# Altium integrated library Infineon_Power_MOSFET.IntLib: 1448 symbols (part 29 of 47)
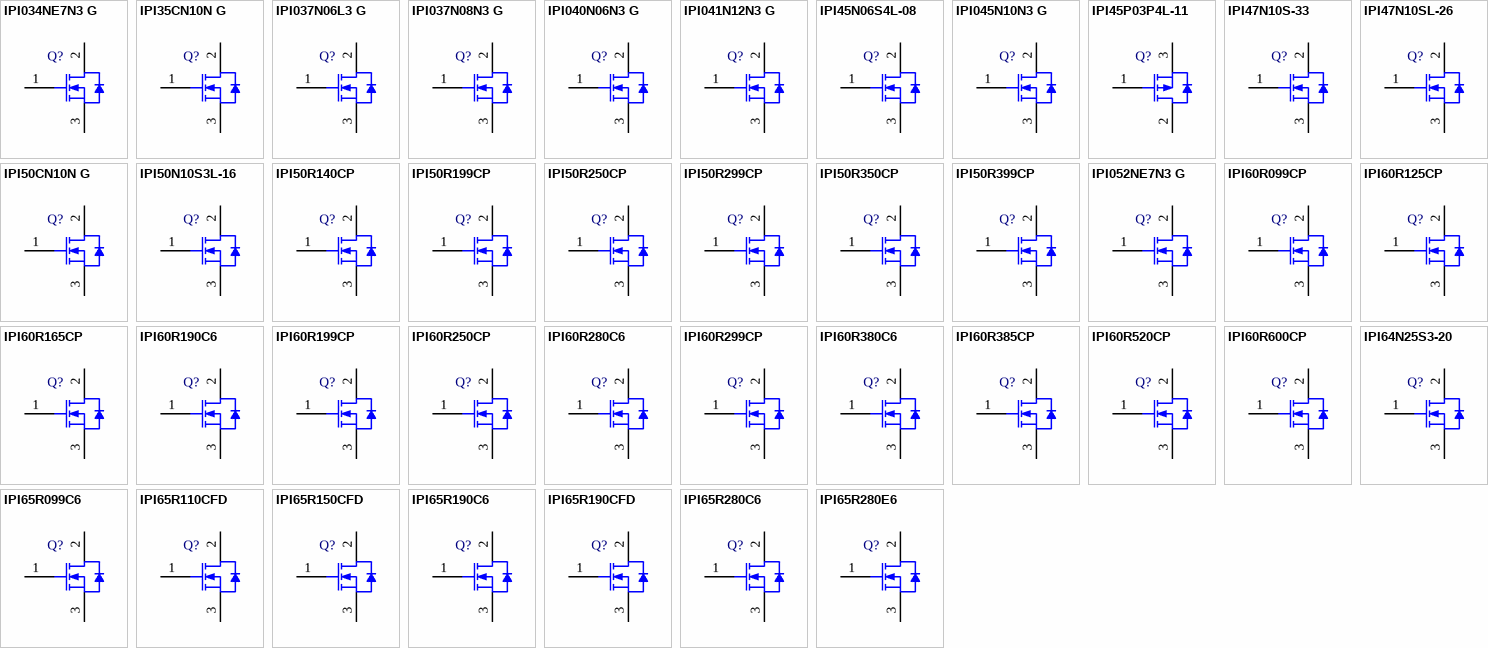
[diagram p65: symbols IPI034NE7N3 G to IPI65R280E6]

## IPI50N10S3L-16
designator Q?
OptiMOS-T Power-Transistor, 100 V VDS, 50 A ID, PG-TO262-3-1, Tube, Green; Manufacturer: Infineon; PartNumber: IPI50N10S3L-16; Green: TRUE; ID (max): 50 A; IDpuls (max): 200 A; Ptot (max): 100 W; QG: 49 nC; RDS (on) (max) (@10V): 15.7 mOhm; RDS (on) (max) (@4.5V): 20.9 mOhm; RthJC (max): 1.5 K/W; VDS (max): 100 V; VGS(th) (max): 2.4 V; VGS(th) (min): 1.2 V; DatasheetVersion: Rev. 1.1; PackageReference: PG-TO262-3-1; PackageDescription: 3-Pin Plastic (Green) Transistor Single Outline Package, 10 x 9.25 mm Body, 2.54 mm Pitch; Supplier 1: Mouser; Supplier Part Number 1: 726-IPI50N10S3L16; Supplier 2: Digi-Key; Supplier Part Number 2: IPI50N10S3L-16-ND; Halogen-free: TRUE; Packing: Tube; Technology: OptiMOS-T; Mounting Technology: Through Hole; ComponentLink1Description: Manufacturer URL; ComponentLink1URL: http://www.infineon.com/; ComponentLink2Description: Datasheet; ComponentLink2URL: http://www.infineon.com/dgdl/IPP_B_I50N10S3L-16_DS_1_1_neu.pdf?folderId=db3a3043156fd5730115c7d50620107c&fileId=db3a30431a5c32f2011a9090a32c5962&location=en.Products.Automotive_ICs.Automotive_MOSFETs.Single__N-Channel_100V_MOSFETs.DATASHEET.IPP_B_I50N10S3L-16_DS_1_1_neu.pdf; ComponentLink3Description: Package Specification; ComponentLink3URL: http://www.infineon.com/cms/packages/Leaded_and_through-hole/P-PG-TO262/P-PG-TO262-3-1.html?__locale=en
footprint INF-PG-TO262-3-1 (FM, 3-Leads, Body 10x4.4mm, Pitch 2.54mm)
pins: 1 GATE, 2 DRAIN, 3 SOURCE

## IPI50R140CP
designator Q?
N-Channel CoolMOS Power-Transistor, 500 V VDS, 23 A ID, -55 to 150 degC, PG-TO262-3-1, Tube, Green; Manufacturer: Infineon; PartNumber: IPI50R140CP; Green: TRUE; ID (max): 23 A; IDpuls (max): 56 A; Polarity: N; Ptot (max): 192 W; QG: 48 nC; RDS (on) (max): 140 mOhm; Rth: 0.65 K/W; RthJA (max): 62 K/W; VDS (max): 500 V; VGS(th) (max): 3.5 V; VGS(th) (min): 2.5 V; DatasheetVersion: Rev. 2.0; PackageReference: PG-TO262-3-1; PackageDescription: 3-Pin Plastic (Green) Transistor Single Outline Package, 10 x 9.25 mm Body, 2.54 mm Pitch; Supplier 1: Mouser; Supplier Part Number 1: 726-IPI50R140CP; Supplier 2: Digi-Key; Supplier Part Number 2: IPI50R140CP-ND; Halogen-free: TRUE; Packing: Tube; RthJC (max): 0.65 K/W; Technology: CoolMOS CP; Mounting Technology: Through Hole; ComponentLink1Description: Manufacturer URL; ComponentLink1URL: http://www.infineon.com/; ComponentLink2Description: Datasheet; ComponentLink2URL: http://www.infineon.com/dgdl/IPI50R140CP_rev2%5B1%5D.0.pdf?folderId=db3a3043163797a6011637e7be4f0060&fileId=db3a30432313ff5e012384dfccfc657a; ComponentLink3Description: Package Specification; ComponentLink3URL: http://www.infineon.com/cms/packages/Leaded_and_through-hole/P-PG-TO262/P-PG-TO262-3-1.html?__locale=en
footprint INF-PG-TO262-3-1 (FM, 3-Leads, Body 10x4.4mm, Pitch 2.54mm)
pins: 1 GATE, 2 DRAIN, 3 SOURCE

## IPI50R199CP
designator Q?
N-Channel CoolMOS Power-Transistor, 500 V VDS, 17 A ID, -55 to 150 degC, PG-TO262-3-1, Tube, Green; Manufacturer: Infineon; PartNumber: IPI50R199CP; Green: TRUE; ID (max): 17 A; IDpuls (max): 40 A; Polarity: N; Ptot (max): 139 W; QG: 34 nC; RDS (on) (max): 199 mOhm; Rth: 0.9 K/W; RthJA (max): 62 K/W; VDS (max): 500 V; VGS(th) (max): 3.5 V; VGS(th) (min): 2.5 V; DatasheetVersion: Rev. 2.0; PackageReference: PG-TO262-3-1; PackageDescription: 3-Pin Plastic (Green) Transistor Single Outline Package, 10 x 9.25 mm Body, 2.54 mm Pitch; Supplier 1: Mouser; Supplier Part Number 1: 726-IPI50R199CP; Supplier 2: Digi-Key; Supplier Part Number 2: IPI50R199CP-ND; Halogen-free: TRUE; Packing: Tube; RthJC (max): 0.9 K/W; Technology: CoolMOS CP; Mounting Technology: Through Hole; ComponentLink1Description: Manufacturer URL; ComponentLink1URL: http://www.infineon.com/; ComponentLink2Description: Datasheet; ComponentLink2URL: http://www.infineon.com/dgdl/IPI50R199CP_rev2.0.pdf?folderId=db3a3043163797a6011637d4bae7003b&fileId=db3a304320896aa20120d230819e5090; ComponentLink3Description: Package Specification; ComponentLink3URL: http://www.infineon.com/cms/packages/Leaded_and_through-hole/P-PG-TO262/P-PG-TO262-3-1.html?__locale=en
footprint INF-PG-TO262-3-1 (FM, 3-Leads, Body 10x4.4mm, Pitch 2.54mm)
pins: 1 GATE, 2 DRAIN, 3 SOURCE

## IPI50R250CP
designator Q?
N-Channel CoolMOS Power-Transistor, 500 V VDS, 13 A ID, -55 to 150 degC, PG-TO262-3-1, Tube, Green; Manufacturer: Infineon; PartNumber: IPI50R250CP; Green: TRUE; ID (max): 13 A; IDpuls (max): 31 A; Polarity: N; Ptot (max): 114 W; QG: 27 nC; RDS (on) (max): 250 mOhm; Rth: 1.1 K/W; RthJA (max): 62 K/W; VDS (max): 500 V; VGS(th) (max): 3.5 V; VGS(th) (min): 2.5 V; DatasheetVersion: Rev. 2.0; PackageReference: PG-TO262-3-1; PackageDescription: 3-Pin Plastic (Green) Transistor Single Outline Package, 10 x 9.25 mm Body, 2.54 mm Pitch; Supplier 1: Mouser; Supplier Part Number 1: 726-IPI50R250CP; Supplier 2: Digi-Key; Supplier Part Number 2: IPI50R250CP-ND; Halogen-free: TRUE; Packing: Tube; RthJC (max): 1.1 K/W; Technology: CoolMOS CP; Mounting Technology: Through Hole; ComponentLink1Description: Manufacturer URL; ComponentLink1URL: http://www.infineon.com/; ComponentLink2Description: Datasheet; ComponentLink2URL: http://www.infineon.com/dgdl/IPI50R250CP_rev2.0.pdf?folderId=db3a3043156fd5730115c736bcc70ff2&fileId=db3a304320896aa20120d244f52350be; ComponentLink3Description: Package Specification; ComponentLink3URL: http://www.infineon.com/cms/packages/Leaded_and_through-hole/P-PG-TO262/P-PG-TO262-3-1.html?__locale=en
footprint INF-PG-TO262-3-1 (FM, 3-Leads, Body 10x4.4mm, Pitch 2.54mm)
pins: 1 GATE, 2 DRAIN, 3 SOURCE

## IPI50R299CP
designator Q?
N-Channel CoolMOS Power-Transistor, 500 V VDS, 12 A ID, -55 to 150 degC, PG-TO262-3-1, Tube, Green; Manufacturer: Infineon; PartNumber: IPI50R299CP; Green: TRUE; ID (max): 12 A; IDpuls (max): 26 A; Polarity: N; Ptot (max): 104 W; QG: 23 nC; RDS (on) (max): 299 mOhm; Rth: 1.2 K/W; RthJA (max): 62 K/W; VDS (max): 500 V; VGS(th) (max): 3.5 V; VGS(th) (min): 2.5 V; DatasheetVersion: Rev. 2.0; PackageReference: PG-TO262-3-1; PackageDescription: 3-Pin Plastic (Green) Transistor Single Outline Package, 10 x 9.25 mm Body, 2.54 mm Pitch; Supplier 1: Mouser; Supplier Part Number 1: 726-IPI50R299CP; Supplier 2: Digi-Key; Supplier Part Number 2: IPI50R299CP-ND; Halogen-free: TRUE; Packing: Tube; RthJC (max): 1.2 K/W; Technology: CoolMOS CP; Mounting Technology: Through Hole; ComponentLink1Description: Manufacturer URL; ComponentLink1URL: http://www.infineon.com/; ComponentLink2Description: Datasheet; ComponentLink2URL: http://www.infineon.com/dgdl/IPI50R299CP_rev2.0.pdf?folderId=db3a3043156fd5730115c736bcc70ff2&fileId=db3a304320896aa20120d24ec76250de; ComponentLink3Description: Package Specification; ComponentLink3URL: http://www.infineon.com/cms/packages/Leaded_and_through-hole/P-PG-TO262/P-PG-TO262-3-1.html?__locale=en
footprint INF-PG-TO262-3-1 (FM, 3-Leads, Body 10x4.4mm, Pitch 2.54mm)
pins: 1 GATE, 2 DRAIN, 3 SOURCE

## IPI50R350CP
designator Q?
N-Channel CoolMOS Power-Transistor, 500 V VDS, 10 A ID, -55 to 150 degC, PG-TO262-3-1, Tube, Green; Manufacturer: Infineon; PartNumber: IPI50R350CP; Green: TRUE; ID (max): 10 A; IDpuls (max): 22 A; Polarity: N; Ptot (max): 89 W; QG: 19 nC; RDS (on) (max): 350 mOhm; Rth: 1.4 K/W; RthJA (max): 62 K/W; VDS (max): 500 V; VGS(th) (max): 3.5 V; VGS(th) (min): 2.5 V; DatasheetVersion: Rev. 2.0; PackageReference: PG-TO262-3-1; PackageDescription: 3-Pin Plastic (Green) Transistor Single Outline Package, 10 x 9.25 mm Body, 2.54 mm Pitch; Supplier 1: Mouser; Supplier Part Number 1: 726-IPI50R350CP; Supplier 2: Farnell; Supplier Part Number 2: 1664032; Supplier 3: Digi-Key; Supplier Part Number 3: IPI50R350CP-ND; Halogen-free: TRUE; Packing: Tube; RthJC (max): 1.4 K/W; Technology: CoolMOS CP; Mounting Technology: Through Hole; ComponentLink1Description: Manufacturer URL; ComponentLink1URL: http://www.infineon.com/; ComponentLink2Description: Datasheet; ComponentLink2URL: http://www.infineon.com/dgdl/IPI50R350CP_rev2+0a.pdf?folderId=db3a3043163797a6011637e7be4f0060&fileId=db3a30432313ff5e012384e7a3eb658a; ComponentLink3Description: Package Specification; ComponentLink3URL: http://www.infineon.com/cms/packages/Leaded_and_through-hole/P-PG-TO262/P-PG-TO262-3-1.html?__locale=en
footprint INF-PG-TO262-3-1 (FM, 3-Leads, Body 10x4.4mm, Pitch 2.54mm)
pins: 1 GATE, 2 DRAIN, 3 SOURCE

## IPI50R399CP
designator Q?
N-Channel CoolMOS Power-Transistor, 500 V VDS, 9 A ID, -55 to 150 degC, PG-TO262-3-1, Tube, Green; Manufacturer: Infineon; PartNumber: IPI50R399CP; Green: TRUE; ID (max): 9 A; IDpuls (max): 20 A; Polarity: N; Ptot (max): 83 W; QG: 17 nC; RDS (on) (max): 399 mOhm; Rth: 1.5 K/W; RthJA (max): 62 K/W; VDS (max): 500 V; VGS(th) (max): 3.5 V; VGS(th) (min): 2.5 V; DatasheetVersion: Rev. 2.0; PackageReference: PG-TO262-3-1; PackageDescription: 3-Pin Plastic (Green) Transistor Single Outline Package, 10 x 9.25 mm Body, 2.54 mm Pitch; Supplier 1: Mouser; Supplier Part Number 1: 726-IPI50R399CP; Supplier 2: Digi-Key; Supplier Part Number 2: IPI50R399CP-ND; Halogen-free: TRUE; Packing: Tube; RthJC (max): 1.5 K/W; Technology: CoolMOS CP; Mounting Technology: Through Hole; ComponentLink1Description: Manufacturer URL; ComponentLink1URL: http://www.infineon.com/; ComponentLink2Description: Datasheet; ComponentLink2URL: http://www.infineon.com/dgdl/IPI50R399CP_rev2+0.pdf?folderId=db3a3043163797a6011637e7be4f0060&fileId=db3a30432313ff5e01238500e97f659a; ComponentLink3Description: Package Specification; ComponentLink3URL: http://www.infineon.com/cms/packages/Leaded_and_through-hole/P-PG-TO262/P-PG-TO262-3-1.html?__locale=en
footprint INF-PG-TO262-3-1 (FM, 3-Leads, Body 10x4.4mm, Pitch 2.54mm)
pins: 1 GATE, 2 DRAIN, 3 SOURCE

## IPI052NE7N3 G
designator Q?
N-Channel OptiMOS 3 Power-Transistor, 75 V VDS, 80 A ID, -55 to 175 degC, PG-TO262-3-1, Tube, Green; Manufacturer: Infineon; PartNumber: IPI052NE7N3 G; Green: TRUE; ID (max): 80 A; IDpuls (max): 320 A; Polarity: N; Ptot (max): 150 W; QG: 51 nC; RDS (on) (max): 5.2 mOhm; Rth: 1 K/W; RthJA (max): 62 K/W; VDS (max): 75 V; VGS(th) (max): 3.8 V; VGS(th) (min): 2.3 V; DatasheetVersion: Rev. 2.01; PackageVersion: Rev. 03, 05/2006; PackageReference: PG-TO262-3-1; PackageDescription: 3-Pin Plastic (Green) Transistor Single Outline Package, 10.03 x 8.98 mm Body, 2.54 mm Pitch; Supplier 1: Mouser; Supplier Part Number 1: 726-IPI052NE7N3G; Supplier 2: Digi-Key; Supplier Part Number 2: IPI052NE7N3 G-ND; Halogen-free: TRUE; Packing: Tube; RthJC (max): 1 K/W; Mounting Technology: Through Hole; ComponentLink1Description: Manufacturer URL; ComponentLink1URL: http://www.infineon.com/; ComponentLink2Description: Datasheet; ComponentLink2URL: http://www.infineon.com/dgdl/IPP_I052NE7N3_Rev2+01.pdf?folderId=db3a304313b8b5a60113cee8763b02d7&fileId=db3a304320d39d5901210ac80a8c273d; ComponentLink3Description: Package Specification; ComponentLink3URL: http://www.infineon.com/dgdl/DS_IPX65R420CFD_2_4.pdf?folderId=db3a3043156fd5730115c736bcc70ff2&fileId=db3a30432f91014f012f9c293f1a7399
footprint INF-PG-TO262-3-1_A (FM, 3-Leads, Body 10.03x4.436mm, Pitch 2.54mm)
pins: 1 GATE, 2 DRAIN, 3 SOURCE

## IPI60R099CP
designator Q?
N-Channel CoolMOS Power-Transistor, 600 V VDS, 31 A ID, -55 to 150 degC, PG-TO262-3-1, Tube, Green; Manufacturer: Infineon; PartNumber: IPI60R099CP; Green: TRUE; ID (max): 31 A; IDpuls (max): 93 A; Polarity: N; Ptot (max): 255 W; QG: 60 nC; RDS (on) (max): 99 mOhm; Rth: 0.5 K/W; RthJA (max): 62 K/W; VDS (max): 600 V; VGS(th) (max): 3.5 V; VGS(th) (min): 2.5 V; DatasheetVersion: Rev. 2.0; PackageReference: PG-TO262-3-1; PackageDescription: 3-Pin Plastic (Green) Transistor Single Outline Package, 10 x 9.25 mm Body, 2.54 mm Pitch; Supplier 1: Mouser; Supplier Part Number 1: 726-IPI60R099CP; Supplier 2: Digi-Key; Supplier Part Number 2: IPI60R099CP-ND; Halogen-free: TRUE; Packing: Tube; RthJC (max): 0.5 K/W; Technology: CoolMOS CP; Mounting Technology: Through Hole; ComponentLink1Description: Manufacturer URL; ComponentLink1URL: http://www.infineon.com/; ComponentLink2Description: Datasheet; ComponentLink2URL: http://www.infineon.com/dgdl/IPI60R099CP_rev2+0_a.pdf?folderId=db3a304314dca38901152838487312ae&fileId=db3a304314dca38901152853393a12bd; ComponentLink3Description: Package Specification; ComponentLink3URL: http://www.infineon.com/cms/packages/Leaded_and_through-hole/P-PG-TO262/P-PG-TO262-3-1.html?__locale=en
footprint INF-PG-TO262-3-1 (FM, 3-Leads, Body 10x4.4mm, Pitch 2.54mm)
pins: 1 GATE, 2 DRAIN, 3 SOURCE

## IPI60R125CP
designator Q?
N-Channel CoolMOS Power-Transistor, 600 V VDS, 25 A ID, -55 to 150 degC, PG-TO262-3-1, Tube, Green; Manufacturer: Infineon; PartNumber: IPI60R125CP; Green: TRUE; ID (max): 25 A; IDpuls (max): 82 A; Polarity: N; Ptot (max): 208 W; QG: 53 nC; RDS (on) (max): 125 Ohm; Rth: 0.6 K/W; RthJA (max): 62 K/W; VDS (max): 600 V; VGS(th) (max): 3.5 V; VGS(th) (min): 2.5 V; DatasheetVersion: Rev. 2.0; PackageReference: PG-TO262-3-1; PackageDescription: 3-Pin Plastic (Green) Transistor Single Outline Package, 10 x 9.25 mm Body, 2.54 mm Pitch; Supplier 1: Mouser; Supplier Part Number 1: 726-IPI60R125CP; Supplier 2: Newark; Supplier Part Number 2: 33P7152; Supplier 3: Farnell; Supplier Part Number 3: 1664036; Supplier 4: Digi-Key; Supplier Part Number 4: IPI60R125CP-ND; Halogen-free: TRUE; Packing: Tube; RthJC (max): 0.6 K/W; Technology: CoolMOS CP; Mounting Technology: Through Hole; ComponentLink1Description: Manufacturer URL; ComponentLink1URL: http://www.infineon.com/; ComponentLink2Description: Datasheet; ComponentLink2URL: http://www.infineon.com/dgdl/IPI60R125CP_rev2.0.pdf?folderId=db3a304314dca38901152838487312ae&fileId=db3a304314dca38901152843d47d12b3; ComponentLink3Description: Package Specification; ComponentLink3URL: http://www.infineon.com/cms/packages/Leaded_and_through-hole/P-PG-TO262/P-PG-TO262-3-1.html?__locale=en
footprint INF-PG-TO262-3-1 (FM, 3-Leads, Body 10x4.4mm, Pitch 2.54mm)
pins: 1 GATE, 2 DRAIN, 3 SOURCE

## IPI60R165CP
designator Q?
N-Channel CoolMOS Power-Transistor, 600 V VDS, 21 A ID, -55 to 150 degC, PG-TO262-3-1, Tube, Green; Manufacturer: Infineon; PartNumber: IPI60R165CP; Green: TRUE; ID (max): 21 A; IDpuls (max): 61 A; Polarity: N; Ptot (max): 192 W; QG: 39 nC; RDS (on) (max): 165 mOhm; Rth: 0.65 K/W; RthJA (max): 62 K/W; VDS (max): 600 V; VGS(th) (max): 3.5 V; VGS(th) (min): 2.5 V; DatasheetVersion: Rev. 2.0; PackageReference: PG-TO262-3-1; PackageDescription: 3-Pin Plastic (Green) Transistor Single Outline Package, 10 x 9.25 mm Body, 2.54 mm Pitch; Supplier 1: Mouser; Supplier Part Number 1: 726-IPI60R165CP; Supplier 2: Newark; Supplier Part Number 2: 33P7153; Supplier 3: Farnell; Supplier Part Number 3: 1664038; Supplier 4: Digi-Key; Supplier Part Number 4: IPI60R165CP-ND; Halogen-free: TRUE; Packing: Tube; RthJC (max): 0.65 K/W; Technology: CoolMOS CP; Mounting Technology: Through Hole; ComponentLink1Description: Manufacturer URL; ComponentLink1URL: http://www.infineon.com/; ComponentLink2Description: Datasheet; ComponentLink2URL: http://www.infineon.com/dgdl/IPI60R165CP_rev2.0.pdf?folderId=db3a304314dca38901152838487312ae&fileId=db3a304314dca38901152841362412b2; ComponentLink3Description: Package Specification; ComponentLink3URL: http://www.infineon.com/cms/packages/Leaded_and_through-hole/P-PG-TO262/P-PG-TO262-3-1.html?__locale=en
footprint INF-PG-TO262-3-1 (FM, 3-Leads, Body 10x4.4mm, Pitch 2.54mm)
pins: 1 GATE, 2 DRAIN, 3 SOURCE

## IPI60R190C6
designator Q?
N-Channel CoolMOS C6 Power-Transistor, 600 V VDS, 20.2 A ID, -55 to 150 degC, PG-TO262-3-1, Tube, Green; Manufacturer: Infineon; PartNumber: IPI60R190C6; Green: TRUE; ID (max): 20.2 A; IDpuls (max): 59 A; Polarity: N; Ptot (max): 151 W; QG: 63 nC; RDS (on) (max): 190 mOhm; Rth: 0.83 K/W; RthJA (max): 62 K/W; VDS (max): 600 V; VGS(th) (max): 3.5 V; VGS(th) (min): 2.5 V; DatasheetVersion: Rev. 2.1; PackageVersion: Rev. 03, 05/2006; PackageReference: PG-TO262-3-1; PackageDescription: 3-Pin Plastic (Green) Transistor Single Outline Package, 10.03 x 8.98 mm Body, 2.54 mm Pitch; Supplier 1: Mouser; Supplier Part Number 1: 726-IPI60R190C6; Supplier 2: Newark; Supplier Part Number 2: 30T1839; Supplier 3: Farnell; Supplier Part Number 3: 1860808; Supplier 4: Digi-Key; Supplier Part Number 4: IPI60R190C6-ND; Halogen-free: TRUE; Packing: Tube; RthJC (max): 0.83 K/W; Technology: CoolMOS C6; Mounting Technology: Through Hole; ComponentLink1Description: Manufacturer URL; ComponentLink1URL: http://www.infineon.com/; ComponentLink2Description: Datasheet; ComponentLink2URL: http://www.infineon.com/dgdl/IPI60R190C6_2_1.pdf?folderId=db3a30431ff98815012019af55de3f2c&fileId=db3a30432239cccd0122650f87c6114d; ComponentLink3Description: Package Specification; ComponentLink3URL: http://www.infineon.com/dgdl/DS_IPX65R420CFD_2_4.pdf?folderId=db3a3043156fd5730115c736bcc70ff2&fileId=db3a30432f91014f012f9c293f1a7399
footprint INF-PG-TO262-3-1_A (FM, 3-Leads, Body 10.03x4.436mm, Pitch 2.54mm)
pins: 1 GATE, 2 DRAIN, 3 SOURCE

## IPI60R199CP
designator Q?
N-Channel CoolMOS Power-Transistor, 600 V VDS, 16 A ID, -55 to 150 degC, PG-TO262-3-1, Tube, Green; Manufacturer: Infineon; PartNumber: IPI60R199CP; Green: TRUE; ID (max): 16 A; IDpuls (max): 51 A; Polarity: N; Ptot (max): 139 W; QG: 32 nC; RDS (on) (max): 199 mOhm; Rth: 0.9 K/W; RthJA (max): 62 K/W; VDS (max): 600 V; VGS(th) (max): 3.5 V; VGS(th) (min): 2.5 V; DatasheetVersion: Rev. 2.2; PackageReference: PG-TO262-3-1; PackageDescription: 3-Pin Plastic (Green) Transistor Single Outline Package, 10 x 9.25 mm Body, 2.54 mm Pitch; Supplier 1: Mouser; Supplier Part Number 1: 726-IPI60R199CP; Supplier 2: Digi-Key; Supplier Part Number 2: IPI60R199CP-ND; Halogen-free: TRUE; Packing: Tube; RthJC (max): 0.9 K/W; Technology: CoolMOS CP; Mounting Technology: Through Hole; ComponentLink1Description: Manufacturer URL; ComponentLink1URL: http://www.infineon.com/; ComponentLink2Description: Datasheet; ComponentLink2URL: http://www.infineon.com/dgdl/IPI60R199CP_rev2.2.pdf?folderId=db3a304412b407950112b408e8c90004&fileId=db3a304412b407950112b42c77ea4707; ComponentLink3Description: Package Specification; ComponentLink3URL: http://www.infineon.com/cms/packages/Leaded_and_through-hole/P-PG-TO262/P-PG-TO262-3-1.html?__locale=en
footprint INF-PG-TO262-3-1 (FM, 3-Leads, Body 10x4.4mm, Pitch 2.54mm)
pins: 1 GATE, 2 DRAIN, 3 SOURCE

## IPI60R250CP
designator Q?
N-Channel CoolMOS Power-Transistor, 600 V VDS, 12 A ID, -55 to 150 degC, PG-TO262-3-1, Tube, Green; Manufacturer: Infineon; PartNumber: IPI60R250CP; Green: TRUE; ID (max): 12 A; IDpuls (max): 40 A; Polarity: N; Ptot (max): 104 W; QG: 26 nC; RDS (on) (max): 250 mOhm; Rth: 1.2 K/W; RthJA (max): 62 K/W; VDS (max): 600 V; VGS(th) (max): 3.5 V; VGS(th) (min): 2.5 V; DatasheetVersion: Rev. 2.2; PackageReference: PG-TO262-3-1; PackageDescription: 3-Pin Plastic (Green) Transistor Single Outline Package, 10 x 9.25 mm Body, 2.54 mm Pitch; Supplier 1: Mouser; Supplier Part Number 1: 726-IPI60R250CP; Supplier 2: Newark; Supplier Part Number 2: 33P7155; Supplier 3: Farnell; Supplier Part Number 3: 1664040; Supplier 4: Digi-Key; Supplier Part Number 4: IPI60R250CP-ND; Halogen-free: TRUE; Packing: Tube; RthJC (max): 1.2 K/W; Technology: CoolMOS CP; Mounting Technology: Through Hole; ComponentLink1Description: Manufacturer URL; ComponentLink1URL: http://www.infineon.com/; ComponentLink2Description: Datasheet; ComponentLink2URL: http://www.infineon.com/dgdl/IPI60R250CP_rev2.2.pdf?folderId=db3a30431ff98815012019af55de3f2c&fileId=db3a304320896aa201208b4058ca0093; ComponentLink3Description: Package Specification; ComponentLink3URL: http://www.infineon.com/cms/packages/Leaded_and_through-hole/P-PG-TO262/P-PG-TO262-3-1.html?__locale=en
footprint INF-PG-TO262-3-1 (FM, 3-Leads, Body 10x4.4mm, Pitch 2.54mm)
pins: 1 GATE, 2 DRAIN, 3 SOURCE

## IPI60R280C6
designator Q?
N-Channel CoolMOS C6 Power-Transistor, 600 V VDS, 13.8 A ID, -55 to 150 degC, PG-TO-262-3-1, Tube, Green; Manufacturer: Infineon; PartNumber: IPI60R280C6; Green: TRUE; ID (max): 13.8 A; IDpuls (max): 40 A; Polarity: N; Ptot (max): 104 W; QG: 43 nC; RDS (on) (max): 280 mOhm; Rth: 1.2 K/W; RthJA (max): 62 K/W; VDS (max): 600 V; VGS(th) (max): 3.5 V; VGS(th) (min): 2.5 V; DatasheetVersion: Rev. 2.1; PackageVersion: Jun-05; PackageReference: PG-TO-262-3-1; PackageDescription: 3-Pin Plastic (Green) Transistor Single Outline Package, 10 x 9.25 mm Body, 2.54 mm Pitch; Supplier 1: Mouser; Supplier Part Number 1: 726-IPI60R280C6; Supplier 2: Farnell; Supplier Part Number 2: 1860807; Supplier 3: Digi-Key; Supplier Part Number 3: IPI60R280C6-ND; Halogen-free: TRUE; Packing: Tube; RthJC (max): 1.2 K/W; Technology: CoolMOS C6; Mounting Technology: Through Hole; ComponentLink1Description: Manufacturer URL; ComponentLink1URL: http://www.infineon.com/; ComponentLink2Description: Datasheet; ComponentLink2URL: http://www.infineon.com/dgdl/IPI60R280C6_2_1.pdf?folderId=db3a3043163797a6011638933eda014b&fileId=db3a30432313ff5e0123a42d44b7273a; ComponentLink3Description: Package Specification; ComponentLink3URL: http://www.infineon.com/dgdl/IPP04CN10N_Rev1.4.pdf?folderId=db3a304313b8b5a60113cee8763b02d7&fileId=db3a30432313ff5e012393a80d1d03d8
footprint INF-PG-TO-262-3-1 (FM, 3-Leads, Body 10x4.4mm, Pitch 2.54mm)
pins: 1 GATE, 2 DRAIN, 3 SOURCE

## IPI60R299CP
designator Q?
N-Channel CoolMOS Power-Transistor, 600 V VDS, 11 A ID, -55 to 150 degC, PG-TO262-3-1, Tube, Green; Manufacturer: Infineon; PartNumber: IPI60R299CP; Green: TRUE; ID (max): 11 A; IDpuls (max): 34 A; Polarity: N; Ptot (max): 96 W; QG: 22 nC; RDS (on) (max): 299 mOhm; Rth: 1.3 K/W; RthJA (max): 62 K/W; VDS (max): 600 V; VGS(th) (max): 3.5 V; VGS(th) (min): 2.5 V; DatasheetVersion: Rev. 2.0; PackageReference: PG-TO262-3-1; PackageDescription: 3-Pin Plastic (Green) Transistor Single Outline Package, 10 x 9.25 mm Body, 2.54 mm Pitch; Supplier 1: Mouser; Supplier Part Number 1: 726-IPI60R299CP; Supplier 2: Farnell; Supplier Part Number 2: 1664041; Supplier 3: Digi-Key; Supplier Part Number 3: IPI60R299CP-ND; Halogen-free: TRUE; Packing: Tube; RthJC (max): 1.3 K/W; Technology: CoolMOS CP; Mounting Technology: Through Hole; ComponentLink1Description: Manufacturer URL; ComponentLink1URL: http://www.infineon.com/; ComponentLink2Description: Datasheet; ComponentLink2URL: http://www.infineon.com/dgdl/IPI60R299CP_rev2.0.pdf?folderId=db3a304412b407950112b408e8c90004&fileId=db3a304412b407950112b42e79d249d3; ComponentLink3Description: Package Specification; ComponentLink3URL: http://www.infineon.com/cms/packages/Leaded_and_through-hole/P-PG-TO262/P-PG-TO262-3-1.html?__locale=en
footprint INF-PG-TO262-3-1 (FM, 3-Leads, Body 10x4.4mm, Pitch 2.54mm)
pins: 1 GATE, 2 DRAIN, 3 SOURCE

## IPI60R380C6
designator Q?
N-Channel CoolMOS C6 Power-Transistor, 600 V VDS, 10.6 A ID, -55 to 150 degC, PG-TO-262-3-1, Tube, Green; Manufacturer: Infineon; PartNumber: IPI60R380C6; Green: TRUE; ID (max): 10.6 A; IDpuls (max): 30 A; Polarity: N; Ptot (max): 83 W; QG: 32 nC; RDS (on) (max): 380 mOhm; Rth: 1.5 K/W; RthJA (max): 62 K/W; VDS (max): 600 V; VGS(th) (max): 3.5 V; VGS(th) (min): 2.5 V; DatasheetVersion: Rev. 2.0; PackageVersion: Jun-05; PackageReference: PG-TO-262-3-1; PackageDescription: 3-Pin Plastic (Green) Transistor Single Outline Package, 10 x 9.25 mm Body, 2.54 mm Pitch; Supplier 1: Mouser; Supplier Part Number 1: 726-IPI60R380C6; Supplier 2: Digi-Key; Supplier Part Number 2: IPI60R380C6-ND; Halogen-free: TRUE; Packing: Tube; RthJC (max): 1.5 K/W; Technology: CoolMOS C6; Mounting Technology: Through Hole; ComponentLink1Description: Manufacturer URL; ComponentLink1URL: http://www.infineon.com/; ComponentLink2Description: Datasheet; ComponentLink2URL: http://www.infineon.com/dgdl/IPI60R380C6_2_0.pdf?folderId=db3a30431ff98815012019af55de3f2c&fileId=db3a30432239cccd012297da496e4494; ComponentLink3Description: Package Specification; ComponentLink3URL: http://www.infineon.com/dgdl/IPP04CN10N_Rev1.4.pdf?folderId=db3a304313b8b5a60113cee8763b02d7&fileId=db3a30432313ff5e012393a80d1d03d8
footprint INF-PG-TO-262-3-1 (FM, 3-Leads, Body 10x4.4mm, Pitch 2.54mm)
pins: 1 GATE, 2 DRAIN, 3 SOURCE

## IPI60R385CP
designator Q?
N-Channel CoolMOS Power-Transistor, 600 V VDS, 9 A ID, -55 to 150 degC, PG-TO262-3-1, Tube, Green; Manufacturer: Infineon; PartNumber: IPI60R385CP; Green: TRUE; ID (max): 9 A; IDpuls (max): 27 A; Polarity: N; Ptot (max): 83 W; QG: 17 nC; RDS (on) (max): 385 mOhm; Rth: 1.5 K/W; RthJA (max): 62 K/W; VDS (max): 600 V; VGS(th) (max): 3.5 V; VGS(th) (min): 2.5 V; DatasheetVersion: Rev. 2.1; PackageReference: PG-TO262-3-1; PackageDescription: 3-Pin Plastic (Green) Transistor Single Outline Package, 10 x 9.25 mm Body, 2.54 mm Pitch; Supplier 1: Mouser; Supplier Part Number 1: 726-IPI60R385CP; Supplier 2: Newark; Supplier Part Number 2: 33P7157; Supplier 3: Farnell; Supplier Part Number 3: 1664042; Supplier 4: Digi-Key; Supplier Part Number 4: IPI60R385CP-ND; Halogen-free: TRUE; Packing: Tube; RthJC (max): 1.5 K/W; Technology: CoolMOS CP; Mounting Technology: Through Hole; ComponentLink1Description: Manufacturer URL; ComponentLink1URL: http://www.infineon.com/; ComponentLink2Description: Datasheet; ComponentLink2URL: http://www.infineon.com/dgdl/IPI60R385CP_rev2.1.pdf?folderId=db3a304412b407950112b408e8c90004&fileId=db3a304412b407950112b42d946f48a3; ComponentLink3Description: Package Specification; ComponentLink3URL: http://www.infineon.com/cms/packages/Leaded_and_through-hole/P-PG-TO262/P-PG-TO262-3-1.html?__locale=en
footprint INF-PG-TO262-3-1 (FM, 3-Leads, Body 10x4.4mm, Pitch 2.54mm)
pins: 1 GATE, 2 DRAIN, 3 SOURCE

## IPI60R520CP
designator Q?
N-Channel CoolMOS Power-Transistor, 600 V VDS, 6.8 A ID, -55 to 150 degC, PG-TO262-3-1, Tube, Green; Manufacturer: Infineon; PartNumber: IPI60R520CP; Green: TRUE; ID (max): 6.8 A; IDpuls (max): 17 A; Polarity: N; Ptot (max): 66 W; QG: 24 nC; RDS (on) (max): 520 mOhm; Rth: 1.9 K/W; RthJA (max): 62 K/W; VDS (max): 600 V; VGS(th) (max): 3.5 V; VGS(th) (min): 2.5 V; DatasheetVersion: Rev. 2.0; PackageReference: PG-TO262-3-1; PackageDescription: 3-Pin Plastic (Green) Transistor Single Outline Package, 10 x 9.25 mm Body, 2.54 mm Pitch; Supplier 1: Mouser; Supplier Part Number 1: 726-IPI60R520CP; Supplier 2: Farnell; Supplier Part Number 2: 1664043; Supplier 3: Digi-Key; Supplier Part Number 3: IPI60R520CP-ND; Halogen-free: TRUE; Packing: Tube; RthJC (max): 1.9 K/W; Technology: CoolMOS CP; Mounting Technology: Through Hole; ComponentLink1Description: Manufacturer URL; ComponentLink1URL: http://www.infineon.com/; ComponentLink2Description: Datasheet; ComponentLink2URL: http://www.infineon.com/dgdl/IPI60R520CP_rev2.0.pdf?folderId=db3a3043163797a6011637d4bae7003b&fileId=db3a3043183a95550118793198eb0471; ComponentLink3Description: Package Specification; ComponentLink3URL: http://www.infineon.com/cms/packages/Leaded_and_through-hole/P-PG-TO262/P-PG-TO262-3-1.html?__locale=en
footprint INF-PG-TO262-3-1 (FM, 3-Leads, Body 10x4.4mm, Pitch 2.54mm)
pins: 1 GATE, 2 DRAIN, 3 SOURCE

## IPI60R600CP
designator Q?
N-Channel CoolMOS Power-Transistor, 600 V VDS, 6.1 A ID, -55 to 150 degC, PG-TO262-3-1, Tube, Green; Manufacturer: Infineon; PartNumber: IPI60R600CP; Green: TRUE; ID (max): 6.1 A; IDpuls (max): 15 A; Polarity: N; Ptot (max): 60 W; QG: 21 nC; RDS (on) (max): 600 mOhm; Rth: 2.1 K/W; RthJA (max): 62 K/W; VDS (max): 600 V; VGS(th) (max): 3.5 V; VGS(th) (min): 2.5 V; DatasheetVersion: Rev. 2.0; PackageReference: PG-TO262-3-1; PackageDescription: 3-Pin Plastic (Green) Transistor Single Outline Package, 10 x 9.25 mm Body, 2.54 mm Pitch; Supplier 1: Mouser; Supplier Part Number 1: 726-IPI60R600CP; Supplier 2: Digi-Key; Supplier Part Number 2: IPI60R600CP-ND; Halogen-free: TRUE; Packing: Tube; RthJC (max): 2.1 K/W; Technology: CoolMOS CP; Mounting Technology: Through Hole; ComponentLink1Description: Manufacturer URL; ComponentLink1URL: http://www.infineon.com/; ComponentLink2Description: Datasheet; ComponentLink2URL: http://www.infineon.com/dgdl/IPI60R600CP_rev2.0.pdf?folderId=db3a3043156fd5730115c736bcc70ff2&fileId=db3a30431ce5fb52011d1a2f7e2412ec; ComponentLink3Description: Package Specification; ComponentLink3URL: http://www.infineon.com/cms/packages/Leaded_and_through-hole/P-PG-TO262/P-PG-TO262-3-1.html?__locale=en
footprint INF-PG-TO262-3-1 (FM, 3-Leads, Body 10x4.4mm, Pitch 2.54mm)
pins: 1 GATE, 2 DRAIN, 3 SOURCE

## IPI64N25S3-20
designator Q?
OptiMOS-T Power-Transistor, 250 V VDS, 64 A ID, PG-TO262-3-1, Green; Manufacturer: Infineon; PartNumber: IPI64N25S3-20; Green: TRUE; ID (max): 64 A; IDpuls (max): 256 A; Ptot (max): 300 W; QG: 67 nC; RDS (on) (max) (@10V): 20 mOhm; RthJC (max): 0.5 K/W; VDS (max): 250 V; VGS(th) (max): 4 V; VGS(th) (min): 2 V; DatasheetVersion: Rev. 1.0; PackageReference: PG-TO262-3-1; PackageDescription: 3-Pin Plastic (Green) Transistor Single Outline Package, 10 x 9.25 mm Body, 2.54 mm Pitch; Halogen-free: TRUE; Technology: OptiMOS-T; Mounting Technology: Through Hole; ComponentLink1Description: Manufacturer URL; ComponentLink1URL: http://www.infineon.com/; ComponentLink2Description: Datasheet; ComponentLink2URL: http://www.infineon.com/dgdl/IPP_B_I64N25S3-20_DS_10.pdf?folderId=db3a30433b92f0e8013b9377b6270147&fileId=db3a30433b92f0e8013b937af6620149&location=en.Products.Automotive_ICs.Automotive_MOSFETs.Single__N-Channel_250V_MOSFETs.DATASHEET.IPP_B_I64N25S3-20_DS_10.pdf; ComponentLink3Description: Package Specification; ComponentLink3URL: http://www.infineon.com/cms/packages/Leaded_and_through-hole/P-PG-TO262/P-PG-TO262-3-1.html?__locale=en
footprint INF-PG-TO262-3-1 (FM, 3-Leads, Body 10x4.4mm, Pitch 2.54mm)
pins: 1 GATE, 2 DRAIN, 3 SOURCE

## IPI65R099C6
designator Q?
N-Channel CoolMOS C6 Power-Transistor, 650 V VDS, 38 A ID, -55 to 150 degC, PG-TO-262-3-1, Tube, Green; Manufacturer: Infineon; PartNumber: IPI65R099C6; Green: TRUE; ID (max): 38 A; IDpuls (max): 115 A; Polarity: N; Ptot (max): 278 W; QG: 127 nC; RDS (on) (max): 99 mOhm; Rth: 0.45 K/W; RthJA (max): 62 K/W; VDS (max): 650 V; VGS(th) (max): 3.5 V; VGS(th) (min): 2.5 V; DatasheetVersion: Rev. 2.0; PackageVersion: Jun-05; PackageReference: PG-TO-262-3-1; PackageDescription: 3-Pin Plastic (Green) Transistor Single Outline Package, 10 x 9.25 mm Body, 2.54 mm Pitch; Halogen-free: TRUE; Packing: Tube; RthJC (max): 0.45 K/W; Technology: CoolMOS C6; Mounting Technology: Through Hole; ComponentLink1Description: Manufacturer URL; ComponentLink1URL: http://www.infineon.com/; ComponentLink2Description: Datasheet; ComponentLink2URL: http://www.infineon.com/dgdl/IPI65R099C6.pdf?folderId=db3a3043163797a6011637d4bae7003b&fileId=db3a3043341f67a10134413a577d5053; ComponentLink3Description: Package Specification; ComponentLink3URL: http://www.infineon.com/dgdl/IPP04CN10N_Rev1.4.pdf?folderId=db3a304313b8b5a60113cee8763b02d7&fileId=db3a30432313ff5e012393a80d1d03d8
footprint INF-PG-TO-262-3-1 (FM, 3-Leads, Body 10x4.4mm, Pitch 2.54mm)
pins: 1 GATE, 2 DRAIN, 3 SOURCE

## IPI65R110CFD
designator Q?
N-Channel CoolMOS CFD2 Power-Transistor, 650 V VDS, 31.2 A ID, -55 to 150 degC, PG-TO-262-3-1, Tube, Green; Manufacturer: Infineon; PartNumber: IPI65R110CFD; Green: TRUE; ID (max): 31.2 A; IDpuls (max): 99.6 A; Polarity: N; Ptot (max): 277.8 W; QG: 118 nC; RDS (on) (max): 110 mOhm; Rth: 0.45 K/W; RthJA (max): 62 K/W; VDS (max): 650 V; VGS(th) (max): 4.5 V; VGS(th) (min): 3.5 V; DatasheetVersion: Rev. 2.6; PackageVersion: Jun-05; PackageReference: PG-TO-262-3-1; PackageDescription: 3-Pin Plastic (Green) Transistor Single Outline Package, 10 x 9.25 mm Body, 2.54 mm Pitch; Supplier 1: Mouser; Supplier Part Number 1: 726-IPI65R110CFD; Supplier 2: Digi-Key; Supplier Part Number 2: IPI65R110CFD-ND; Halogen-free: TRUE; Packing: Tube; RthJC (max): 0.45 K/W; Technology: CoolMOS CFD2; Mounting Technology: Through Hole; ComponentLink1Description: Manufacturer URL; ComponentLink1URL: http://www.infineon.com/; ComponentLink2Description: Datasheet; ComponentLink2URL: http://www.infineon.com/dgdl/DS_IPX65R110CFD_2_61.pdf?folderId=db3a3043156fd5730115c736bcc70ff2&fileId=db3a30433004641301306abd8e2041b1; ComponentLink3Description: Package Specification; ComponentLink3URL: http://www.infineon.com/dgdl/IPP04CN10N_Rev1.4.pdf?folderId=db3a304313b8b5a60113cee8763b02d7&fileId=db3a30432313ff5e012393a80d1d03d8
footprint INF-PG-TO-262-3-1 (FM, 3-Leads, Body 10x4.4mm, Pitch 2.54mm)
pins: 1 GATE, 2 DRAIN, 3 SOURCE

## IPI65R150CFD
designator Q?
N-Channel CoolMOS CFD2 Power-Transistor, 650 V VDS, 22.4 A ID, -55 to 150 degC, PG-TO-262-3-1, Tube, Green; Manufacturer: Infineon; PartNumber: IPI65R150CFD; Green: TRUE; ID (max): 22.4 A; IDpuls (max): 72 A; Polarity: N; Ptot (max): 195.3 W; QG: 86 nC; RDS (on) (max): 150 mOhm; Rth: 0.64 K/W; RthJA (max): 62 K/W; VDS (max): 650 V; VGS(th) (max): 4.5 V; VGS(th) (min): 3.5 V; DatasheetVersion: Rev. 2.0; PackageVersion: Jun-05; PackageReference: PG-TO-262-3-1; PackageDescription: 3-Pin Plastic (Green) Transistor Single Outline Package, 10 x 9.25 mm Body, 2.54 mm Pitch; Halogen-free: TRUE; Packing: Tube; RthJC (max): 0.64 K/W; Technology: CoolMOS CFD2; Mounting Technology: Through Hole; ComponentLink1Description: Manufacturer URL; ComponentLink1URL: http://www.infineon.com/; ComponentLink2Description: Datasheet; ComponentLink2URL: http://www.infineon.com/dgdl/DS_IPX65R150CFD__2_01.pdf?folderId=db3a3043156fd5730115c736bcc70ff2&fileId=db3a3043338c8ac80133ace218433063; ComponentLink3Description: Package Specification; ComponentLink3URL: http://www.infineon.com/dgdl/IPP04CN10N_Rev1.4.pdf?folderId=db3a304313b8b5a60113cee8763b02d7&fileId=db3a30432313ff5e012393a80d1d03d8
footprint INF-PG-TO-262-3-1 (FM, 3-Leads, Body 10x4.4mm, Pitch 2.54mm)
pins: 1 GATE, 2 DRAIN, 3 SOURCE

## IPI65R190C6
designator Q?
N-Channel CoolMOS C6 Power-Transistor, 650 V VDS, 20.2 A ID, -55 to 150 degC, PG-TO-262-3-1, Tube, Green; Manufacturer: Infineon; PartNumber: IPI65R190C6; Green: TRUE; ID (max): 20.2 A; IDpuls (max): 66 A; Polarity: N; Ptot (max): 151 W; QG: 73 nC; RDS (on) (max): 190 mOhm; Rth: 0.83 K/W; RthJA (max): 62 K/W; VDS (max): 650 V; VGS(th) (max): 3.5 V; VGS(th) (min): 2.5 V; DatasheetVersion: Rev. 2.0; PackageVersion: Jun-05; PackageReference: PG-TO-262-3-1; PackageDescription: 3-Pin Plastic (Green) Transistor Single Outline Package, 10 x 9.25 mm Body, 2.54 mm Pitch; Supplier 1: Mouser; Supplier Part Number 1: 726-IPI65R190C6; Supplier 2: Digi-Key; Supplier Part Number 2: IPI65R190C6-ND; Halogen-free: TRUE; Packing: Tube; RthJC (max): 0.83 K/W; Technology: CoolMOS C6; Mounting Technology: Through Hole; ComponentLink1Description: Manufacturer URL; ComponentLink1URL: http://www.infineon.com/; ComponentLink2Description: Datasheet; ComponentLink2URL: http://www.infineon.com/dgdl/IPI65R190C6_2_0.pdf?folderId=db3a3043163797a6011637d4bae7003b&fileId=db3a304330046413013007e55bcb3d6b; ComponentLink3Description: Package Specification; ComponentLink3URL: http://www.infineon.com/dgdl/IPP04CN10N_Rev1.4.pdf?folderId=db3a304313b8b5a60113cee8763b02d7&fileId=db3a30432313ff5e012393a80d1d03d8
footprint INF-PG-TO-262-3-1 (FM, 3-Leads, Body 10x4.4mm, Pitch 2.54mm)
pins: 1 GATE, 2 DRAIN, 3 SOURCE

## IPI65R190CFD
designator Q?
N-Channel CoolMOS C6 CFD Power-Transistor, 650 V VDS, 17.5 A ID, -55 to 150 degC, PG-TO-262-3-1, Tube, Green; Manufacturer: Infineon; PartNumber: IPI65R190CFD; Green: TRUE; ID (max): 17.5 A; IDpuls (max): 57.2 A; Polarity: N; Ptot (max): 151 W; QG: 68 nC; RDS (on) (max): 190 mOhm; Rth: 0.83 K/W; RthJA (max): 62 K/W; VDS (max): 650 V; VGS(th) (max): 4.5 V; VGS(th) (min): 3.5 V; DatasheetVersion: Rev. 2.2; PackageVersion: Jun-05; PackageReference: PG-TO-262-3-1; PackageDescription: 3-Pin Plastic (Green) Transistor Single Outline Package, 10 x 9.25 mm Body, 2.54 mm Pitch; Supplier 1: Mouser; Supplier Part Number 1: 726-IPI65R190CFD; Supplier 2: Digi-Key; Supplier Part Number 2: IPI65R190CFD-ND; Halogen-free: TRUE; Packing: Tube; RthJC (max): 0.83 K/W; Technology: CoolMOS CFD2; Mounting Technology: Through Hole; ComponentLink1Description: Manufacturer URL; ComponentLink1URL: http://www.infineon.com/; ComponentLink2Description: Datasheet; ComponentLink2URL: http://www.infineon.com/dgdl/DS_IPX65R190CFD__2_2.pdf?folderId=db3a3043163797a6011637d4bae7003b&fileId=db3a30432fd0c54a012fded065a8309b; ComponentLink3Description: Package Specification; ComponentLink3URL: http://www.infineon.com/dgdl/IPP04CN10N_Rev1.4.pdf?folderId=db3a304313b8b5a60113cee8763b02d7&fileId=db3a30432313ff5e012393a80d1d03d8
footprint INF-PG-TO-262-3-1 (FM, 3-Leads, Body 10x4.4mm, Pitch 2.54mm)
pins: 1 GATE, 2 DRAIN, 3 SOURCE

## IPI65R280C6
designator Q?
N-Channel CoolMOS C6 Power-Transistor, 650 V VDS, 13.8 A ID, -55 to 150 degC, PG-TO262-3-1, Tube, Green; Manufacturer: Infineon; PartNumber: IPI65R280C6; Green: TRUE; ID (max): 13.8 A; IDpuls (max): 39 A; Polarity: N; Ptot (max): 104 W; QG: 45 nC; RDS (on) (max): 280 mOhm; Rth: 1.2 K/W; RthJA (max): 62 K/W; VDS (max): 650 V; VGS(th) (max): 3.5 V; VGS(th) (min): 2.5 V; DatasheetVersion: Rev. 2.0; PackageVersion: Rev. 03, 05/2006; PackageReference: PG-TO262-3-1; PackageDescription: 3-Pin Plastic (Green) Transistor Single Outline Package, 10.03 x 8.98 mm Body, 2.54 mm Pitch; Supplier 1: Mouser; Supplier Part Number 1: 726-IPI65R280C6; Supplier 2: Digi-Key; Supplier Part Number 2: IPI65R280C6-ND; Halogen-free: TRUE; Packing: Tube; RthJC (max): 1.2 K/W; Technology: CoolMOS C6; Mounting Technology: Through Hole; ComponentLink1Description: Manufacturer URL; ComponentLink1URL: http://www.infineon.com/; ComponentLink2Description: Datasheet; ComponentLink2URL: http://www.infineon.com/dgdl/IPI65R280C6_2_0.pdf?folderId=db3a3043163797a6011637d4bae7003b&fileId=db3a30432a7fedfc012a8ac1e7c758cf; ComponentLink3Description: Package Specification; ComponentLink3URL: http://www.infineon.com/dgdl/DS_IPX65R420CFD_2_4.pdf?folderId=db3a3043156fd5730115c736bcc70ff2&fileId=db3a30432f91014f012f9c293f1a7399
footprint INF-PG-TO262-3-1_A (FM, 3-Leads, Body 10.03x4.436mm, Pitch 2.54mm)
pins: 1 GATE, 2 DRAIN, 3 SOURCE

## IPI65R280E6
designator Q?
N-Channel CoolMOS(TM) E6 Power Transistor, 650 V VDS, -55 to 150 degC, PG-TO262-3, Tube, Green; Manufacturer: Infineon; PartNumber: IPI65R280E6; Green: TRUE; Polarity: FALSE; RDS (on) (max): 280 mOhm; VDS (max): 650 V; DatasheetVersion: Rev. 2.0; PackageVersion: Rev. 2.0, 04/2010; PackageReference: PG-TO262-3-1_A; PackageDescription: 3-Pin Plastic (Green) Transistor Single Outline Package, 10.03 x 8.98 mm Body, 2.54 mm Pitch; Supplier 1: Mouser; Supplier Part Number 1: 726-IPI65R280E6; Halogen-free: TRUE; Packing: Tube; Mounting Technology: Through Hole; ComponentLink1Description: Manufacturer URL; ComponentLink1URL: http://www.infineon.com/; ComponentLink2Description: Datasheet; ComponentLink2URL: http://www.infineon.com/dgdl/IPI65R280E6_2_0.pdf?folderId=db3a3043163797a6011637d4bae7003b&fileId=5546d46145f1f3a4014618e6c4f81afe; ComponentLink3Description: Package Specification; ComponentLink3URL: http://www.infineon.com/dgdl/IPI65R280E6_2_0.pdf?folderId=db3a3043163797a6011637d4bae7003b&fileId=5546d46145f1f3a4014618e6c4f81afe
footprint INF-PG-TO262-3-1_A (FM, 3-Leads, Body 10.03x4.436mm, Pitch 2.54mm)
pins: 1 GATE, 2 DRAIN, 3 SOURCE

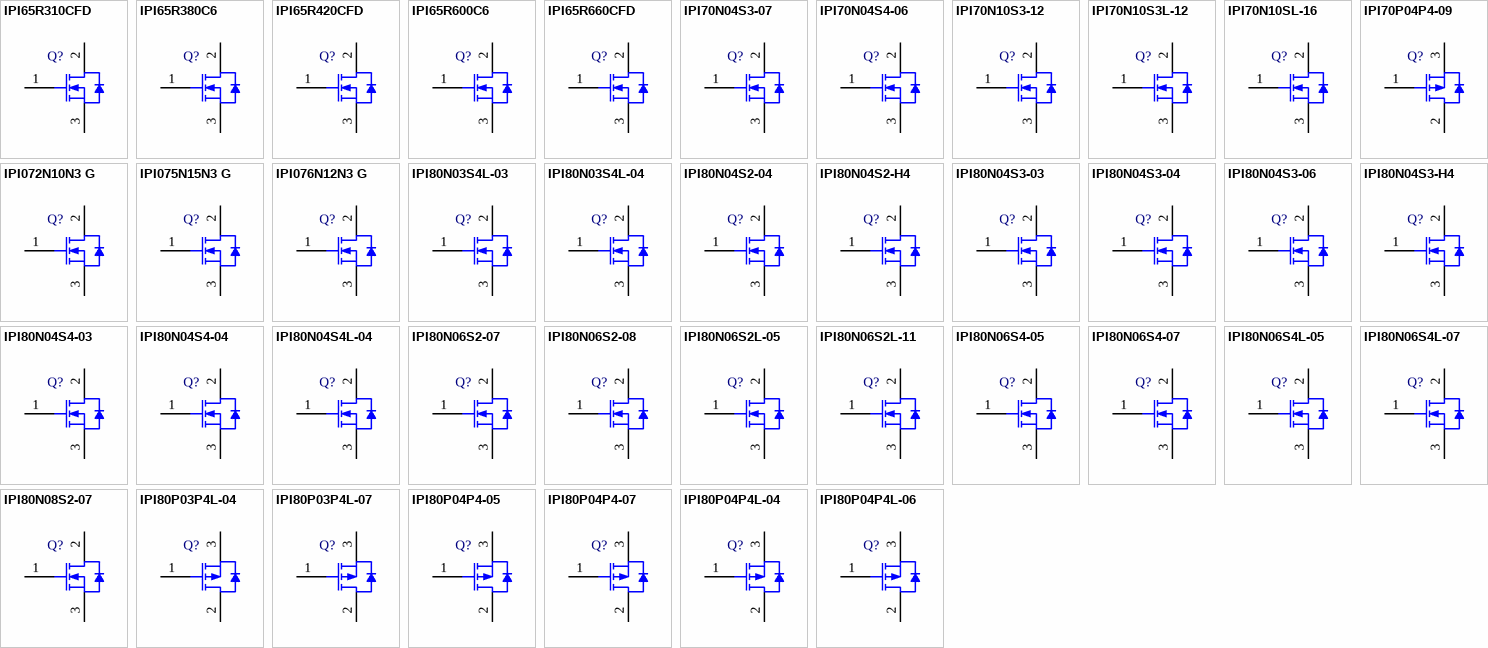
[diagram p23: symbols IPI65R310CFD to IPI80P04P4L-06]

## IPI65R310CFD
designator Q?
N-Channel CoolMOS CFD2 Power-Transistor, 650 V VDS, 11.4 A ID, -55 to 150 degC, PG-TO262-3-1, Tube, Green; Manufacturer: Infineon; PartNumber: IPI65R310CFD; Green: TRUE; ID (max): 11.4 A; IDpuls (max): 34.4 A; Polarity: N; Ptot (max): 104.2 W; QG: 41 nC; RDS (on) (max): 310 mOhm; Rth: 1.2 K/W; RthJA (max): 62 K/W; VDS (max): 650 V; VGS(th) (max): 4.5 V; VGS(th) (min): 3.5 V; DatasheetVersion: Rev. 2.3; PackageVersion: Rev. 03, 05/2006; PackageReference: PG-TO262-3-1; PackageDescription: 3-Pin Plastic (Green) Transistor Single Outline Package, 10.03 x 8.98 mm Body, 2.54 mm Pitch; Supplier 1: Mouser; Supplier Part Number 1: 726-IPI65R310CFD; Supplier 2: Digi-Key; Supplier Part Number 2: IPI65R310CFD-ND; Halogen-free: TRUE; Packing: Tube; RthJC (max): 1.2 K/W; Technology: CoolMOS CFD2; Mounting Technology: Through Hole; ComponentLink1Description: Manufacturer URL; ComponentLink1URL: http://www.infineon.com/; ComponentLink2Description: Datasheet; ComponentLink2URL: http://www.infineon.com/dgdl/DS_IPX65R310CFD__2_3.pdf?folderId=db3a3043163797a6011637d4bae7003b&fileId=db3a30432f91014f012f9caff105741c; ComponentLink3Description: Package Specification; ComponentLink3URL: http://www.infineon.com/dgdl/DS_IPX65R420CFD_2_4.pdf?folderId=db3a3043156fd5730115c736bcc70ff2&fileId=db3a30432f91014f012f9c293f1a7399
footprint INF-PG-TO262-3-1_A (FM, 3-Leads, Body 10.03x4.436mm, Pitch 2.54mm)
pins: 1 GATE, 2 DRAIN, 3 SOURCE

## IPI65R380C6
designator Q?
N-Channel CoolMOS C6 Power-Transistor, 650 V VDS, 10.6 A ID, -55 to 150 degC, PG-TO262-3-1, Tube, Green; Manufacturer: Infineon; PartNumber: IPI65R380C6; Green: TRUE; ID (max): 10.6 A; IDpuls (max): 29 A; Polarity: N; Ptot (max): 83 W; QG: 39 nC; RDS (on) (max): 380 mOhm; Rth: 1.5 K/W; RthJA (max): 62 K/W; VDS (max): 650 V; VGS(th) (max): 3.5 V; VGS(th) (min): 2.5 V; DatasheetVersion: Rev. 2.1; PackageVersion: Rev. 03, 05/2006; PackageReference: PG-TO262-3-1; PackageDescription: 3-Pin Plastic (Green) Transistor Single Outline Package, 10.03 x 8.98 mm Body, 2.54 mm Pitch; Supplier 1: Mouser; Supplier Part Number 1: 726-IPI65R380C6; Supplier 2: Digi-Key; Supplier Part Number 2: IPI65R380C6-ND; Halogen-free: TRUE; Packing: Tube; RthJC (max): 1.5 K/W; Technology: CoolMOS C6; Mounting Technology: Through Hole; ComponentLink1Description: Manufacturer URL; ComponentLink1URL: http://www.infineon.com/; ComponentLink2Description: Datasheet; ComponentLink2URL: http://www.infineon.com/dgdl/IPI65R380C6_2_1.pdf?folderId=db3a3043163797a6011637d4bae7003b&fileId=db3a30432ba3fa6f012bf2e612a177ee; ComponentLink3Description: Package Specification; ComponentLink3URL: http://www.infineon.com/dgdl/DS_IPX65R420CFD_2_4.pdf?folderId=db3a3043156fd5730115c736bcc70ff2&fileId=db3a30432f91014f012f9c293f1a7399
footprint INF-PG-TO262-3-1_A (FM, 3-Leads, Body 10.03x4.436mm, Pitch 2.54mm)
pins: 1 GATE, 2 DRAIN, 3 SOURCE

## IPI65R420CFD
designator Q?
N-Channel CoolMOS Power Transistor, 650 V VDS, 8.7 A ID, -55 to 150 degC, PG-TO262-3-1, Tube, Green; Manufacturer: Infineon; PartNumber: IPI65R420CFD; Green: TRUE; ID (max): 8.7 A; IDpuls (max): 27 A; Polarity: N; Ptot (max): 83.3 W; QG: 31.5 nC; RDS (on) (max): 420 mOhm; Rth: 1.5 K/W; RthJA (max): 62 K/W; VDS (max): 650 V; VGS(th) (max): 4.5 V; VGS(th) (min): 3.5 V; DatasheetVersion: Rev. 2.4; PackageVersion: Rev. 03, 05/2006; PackageReference: PG-TO262-3-1; PackageDescription: 3-Pin Plastic (Green) Transistor Single Outline Package, 10.03 x 8.98 mm Body, 2.54 mm Pitch; Supplier 1: Mouser; Supplier Part Number 1: 726-IPI65R420CFD; Supplier 2: Digi-Key; Supplier Part Number 2: IPI65R420CFD-ND; Halogen-free: TRUE; Packing: Tube; RthJC (max): 1.5 K/W; Technology: CoolMOS CFD2; Mounting Technology: Through Hole; ComponentLink1Description: Manufacturer URL; ComponentLink1URL: http://www.infineon.com/; ComponentLink2Description: Datasheet; ComponentLink2URL: http://www.infineon.com/dgdl/DS_IPX65R420CFD_2_4.pdf?folderId=db3a3043156fd5730115c736bcc70ff2&fileId=db3a30432f91014f012f9c293f1a7399; ComponentLink3Description: Package Specification; ComponentLink3URL: http://www.infineon.com/dgdl/DS_IPX65R420CFD_2_4.pdf?folderId=db3a3043156fd5730115c736bcc70ff2&fileId=db3a30432f91014f012f9c293f1a7399
footprint INF-PG-TO262-3-1_A (FM, 3-Leads, Body 10.03x4.436mm, Pitch 2.54mm)
pins: 1 GATE, 2 DRAIN, 3 SOURCE

## IPI65R600C6
designator Q?
N-Channel CoolMOS C6 Power-Transistor, 650 V VDS, 7.3 A ID, -55 to 150 degC, PG-TO262-3-1, Tube, Green; Manufacturer: Infineon; PartNumber: IPI65R600C6; Green: TRUE; ID (max): 7.3 A; IDpuls (max): 18 A; Polarity: N; Ptot (max): 63 W; QG: 23 nC; RDS (on) (max): 600 mOhm; Rth: 2 K/W; RthJA (max): 62 K/W; VDS (max): 650 V; VGS(th) (max): 3.5 V; VGS(th) (min): 2.5 V; DatasheetVersion: Rev. 2.0; PackageVersion: Rev. 03, 05/2006; PackageReference: PG-TO262-3-1; PackageDescription: 3-Pin Plastic (Green) Transistor Single Outline Package, 10.03 x 8.98 mm Body, 2.54 mm Pitch; Supplier 1: Mouser; Supplier Part Number 1: 726-IPI65R600C6; Supplier 2: Digi-Key; Supplier Part Number 2: IPI65R600C6-ND; Halogen-free: TRUE; Packing: Tube; RthJC (max): 2 K/W; Technology: CoolMOS C6; Mounting Technology: Through Hole; ComponentLink1Description: Manufacturer URL; ComponentLink1URL: http://www.infineon.com/; ComponentLink2Description: Datasheet; ComponentLink2URL: http://www.infineon.com/dgdl/IPI65R600C6_2_0.pdf?folderId=db3a3043163797a6011637d4bae7003b&fileId=db3a30432ac1eb91012ac744ef772c60; ComponentLink3Description: Package Specification; ComponentLink3URL: http://www.infineon.com/dgdl/DS_IPX65R420CFD_2_4.pdf?folderId=db3a3043156fd5730115c736bcc70ff2&fileId=db3a30432f91014f012f9c293f1a7399
footprint INF-PG-TO262-3-1_A (FM, 3-Leads, Body 10.03x4.436mm, Pitch 2.54mm)
pins: 1 GATE, 2 DRAIN, 3 SOURCE

## IPI65R660CFD
designator Q?
N-Channel CoolMOS CFD2 Power-Transistor, 650 V VDS, 6 A ID, -55 to 150 degC, PG-TO262-3-1, Tube, Green; Manufacturer: Infineon; PartNumber: IPI65R660CFD; Green: TRUE; ID (max): 6 A; IDpuls (max): 17 A; Polarity: N; Ptot (max): 63 W; QG: 22 nC; RDS (on) (max): 660 mOhm; Rth: 2 K/W; RthJA (max): 62 K/W; VDS (max): 650 V; VGS(th) (max): 4.5 V; VGS(th) (min): 3.5 V; DatasheetVersion: Rev. 2.5; PackageVersion: Rev. 03, 05/2006; PackageReference: PG-TO262-3-1; PackageDescription: 3-Pin Plastic (Green) Transistor Single Outline Package, 10.03 x 8.98 mm Body, 2.54 mm Pitch; Supplier 1: Mouser; Supplier Part Number 1: 726-IPI65R660CFD; Supplier 2: Digi-Key; Supplier Part Number 2: IPI65R660CFD-ND; Halogen-free: TRUE; Packing: Tube; RthJC (max): 2 K/W; Technology: CoolMOS CFD2; Mounting Technology: Through Hole; ComponentLink1Description: Manufacturer URL; ComponentLink1URL: http://www.infineon.com/; ComponentLink2Description: Datasheet; ComponentLink2URL: http://www.infineon.com/dgdl/DS_IPX65R660CFD_2_5.pdf?folderId=db3a3043163797a6011637d4bae7003b&fileId=db3a30432f29829e012f2efe7ac539b4; ComponentLink3Description: Package Specification; ComponentLink3URL: http://www.infineon.com/dgdl/DS_IPX65R420CFD_2_4.pdf?folderId=db3a3043156fd5730115c736bcc70ff2&fileId=db3a30432f91014f012f9c293f1a7399
footprint INF-PG-TO262-3-1_A (FM, 3-Leads, Body 10.03x4.436mm, Pitch 2.54mm)
pins: 1 GATE, 2 DRAIN, 3 SOURCE

## IPI70N04S3-07
designator Q?
OptiMOS-T Power-Transistor, 40 V VDS, 80 A ID, PG-TO262-3-1, Tube, Green; Manufacturer: Infineon; PartNumber: IPI70N04S3-07; Green: TRUE; ID (max): 80 A; IDpuls (max): 280 A; Ptot (max): 79 W; QG: 30 nC; RDS (on) (max) (@10V): 6.5 mOhm; RthJC (max): 1.9 K/W; VDS (max): 40 V; VGS(th) (max): 4 V; VGS(th) (min): 2.1 V; DatasheetVersion: Rev. 1.0; PackageReference: PG-TO262-3-1; PackageDescription: 3-Pin Plastic (Green) Transistor Single Outline Package, 10 x 9.25 mm Body, 2.54 mm Pitch; Supplier 1: Mouser; Supplier Part Number 1: 726-IPI70N04S3-07; Supplier 2: Digi-Key; Supplier Part Number 2: IPI70N04S3-07-ND; Halogen-free: TRUE; Packing: Tube; Technology: OptiMOS-T; Mounting Technology: Through Hole; ComponentLink1Description: Manufacturer URL; ComponentLink1URL: http://www.infineon.com/; ComponentLink2Description: Datasheet; ComponentLink2URL: http://www.infineon.com/dgdl/IPP_B_I70N04S3-07_DS_1_0.pdf?folderId=db3a304412b407950112b42b75b74520&fileId=db3a304317a748360117cfde4bf11287&location=en.Products.Automotive_ICs.Automotive_MOSFETs.Single__N-Channel_40V_MOSFETs.DATASHEET.IPP_B_I70N04S3-07_DS_1_0.pdf; ComponentLink3Description: Package Specification; ComponentLink3URL: http://www.infineon.com/cms/packages/Leaded_and_through-hole/P-PG-TO262/P-PG-TO262-3-1.html?__locale=en
footprint INF-PG-TO262-3-1 (FM, 3-Leads, Body 10x4.4mm, Pitch 2.54mm)
pins: 1 GATE, 2 DRAIN, 3 SOURCE

## IPI70N04S4-06
designator Q?
OptiMOS-T2 Power-Transistor, 40 V VDS, 70 A ID, PG-TO262-3-1, Tube, Green; Manufacturer: Infineon; PartNumber: IPI70N04S4-06; Green: TRUE; ID (max): 70 A; IDpuls (max): 280 A; Ptot (max): 58 W; QG: 24.5 nC; RDS (on) (max) (@10V): 6.5 mOhm; RthJC (max): 2.6 K/W; VDS (max): 40 V; VGS(th) (max): 4 V; VGS(th) (min): 2 V; DatasheetVersion: Rev. 1.0; PackageReference: PG-TO262-3-1; PackageDescription: 3-Pin Plastic (Green) Transistor Single Outline Package, 10 x 9.25 mm Body, 2.54 mm Pitch; Supplier 1: Mouser; Supplier Part Number 1: 726-IPI70N04S4-06; Supplier 2: Digi-Key; Supplier Part Number 2: IPI70N04S4-06-ND; Halogen-free: TRUE; Packing: Tube; Technology: OptiMOS-T2; Mounting Technology: Through Hole; ComponentLink1Description: Manufacturer URL; ComponentLink1URL: http://www.infineon.com/; ComponentLink2Description: Datasheet; ComponentLink2URL: http://www.infineon.com/dgdl/IPP_B_I70N04S4-06_DS_1_0.pdf?folderId=db3a304412b407950112b42b75b74520&fileId=db3a304328c6bd5c01291c501db65d98&location=en.Products.Automotive_ICs.Automotive_MOSFETs.Single__N-Channel_40V_MOSFETs.DATASHEET.IPP_B_I70N04S4-06_DS_1_0.pdf; ComponentLink3Description: Package Specification; ComponentLink3URL: http://www.infineon.com/cms/packages/Leaded_and_through-hole/P-PG-TO262/P-PG-TO262-3-1.html?__locale=en
footprint INF-PG-TO262-3-1 (FM, 3-Leads, Body 10x4.4mm, Pitch 2.54mm)
pins: 1 GATE, 2 DRAIN, 3 SOURCE